# Altium footprint library LPJK0036.PcbLib: 1 footprints
Each footprint in its own frame and in the unit in brackets; x right, y up, seen from the top. Pads: shape width x height; smd on the part's side, far side on the other; paste and mask are expansions set on the pad; w line width, h text height; cw(c..) or ccw(c..) is an arc to the next point about the centre after c.
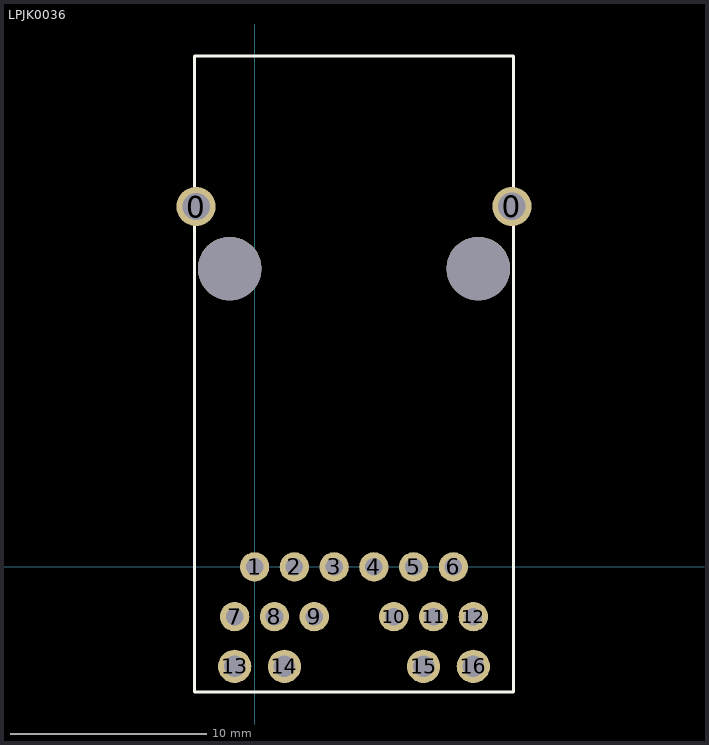
[diagram p0: the footprint, top view; thin cyan lines are the x and y axes]

## LPJK0036 [mm] "1000BASE-T RJ45 with Magnetic"
pads (20):
  round 2 hole 1.4: 0(-2.984,18.41) 0(13.144,18.415)
  round 1.5 hole 0.9: 1(0,0) 2(2.032,0) 3(4.064,0) 4(6.096,0) 5(8.128,0) 6(10.16,0) 7(-1.016,-2.54) 8(1.016,-2.54) 9(3.048,-2.54) 10(7.112,-2.54) 11(9.144,-2.54) 12(11.176,-2.54)
  round 1.7 hole 1.1: 13(-1.016,-5.08) 14(1.524,-5.08) 15(8.636,-5.08) 16(11.176,-5.08)
  round 3.25 hole 3.25: ""(-1.27,15.24) ""(11.43,15.24)
Top Overlay:
  lines w0.15: -3.075,-6.4 -3.075,26.11 13.235,26.11 13.235,-6.4 -3.048,-6.4
3D body "LPJK0036AONL.STEP": height 15.77, standoff -3.69, extent -5.383,-6.35 15.543,26.15